# Altium integrated library Lattice CPLD ispMACH.IntLib: 663 symbols (part 48 of 48)
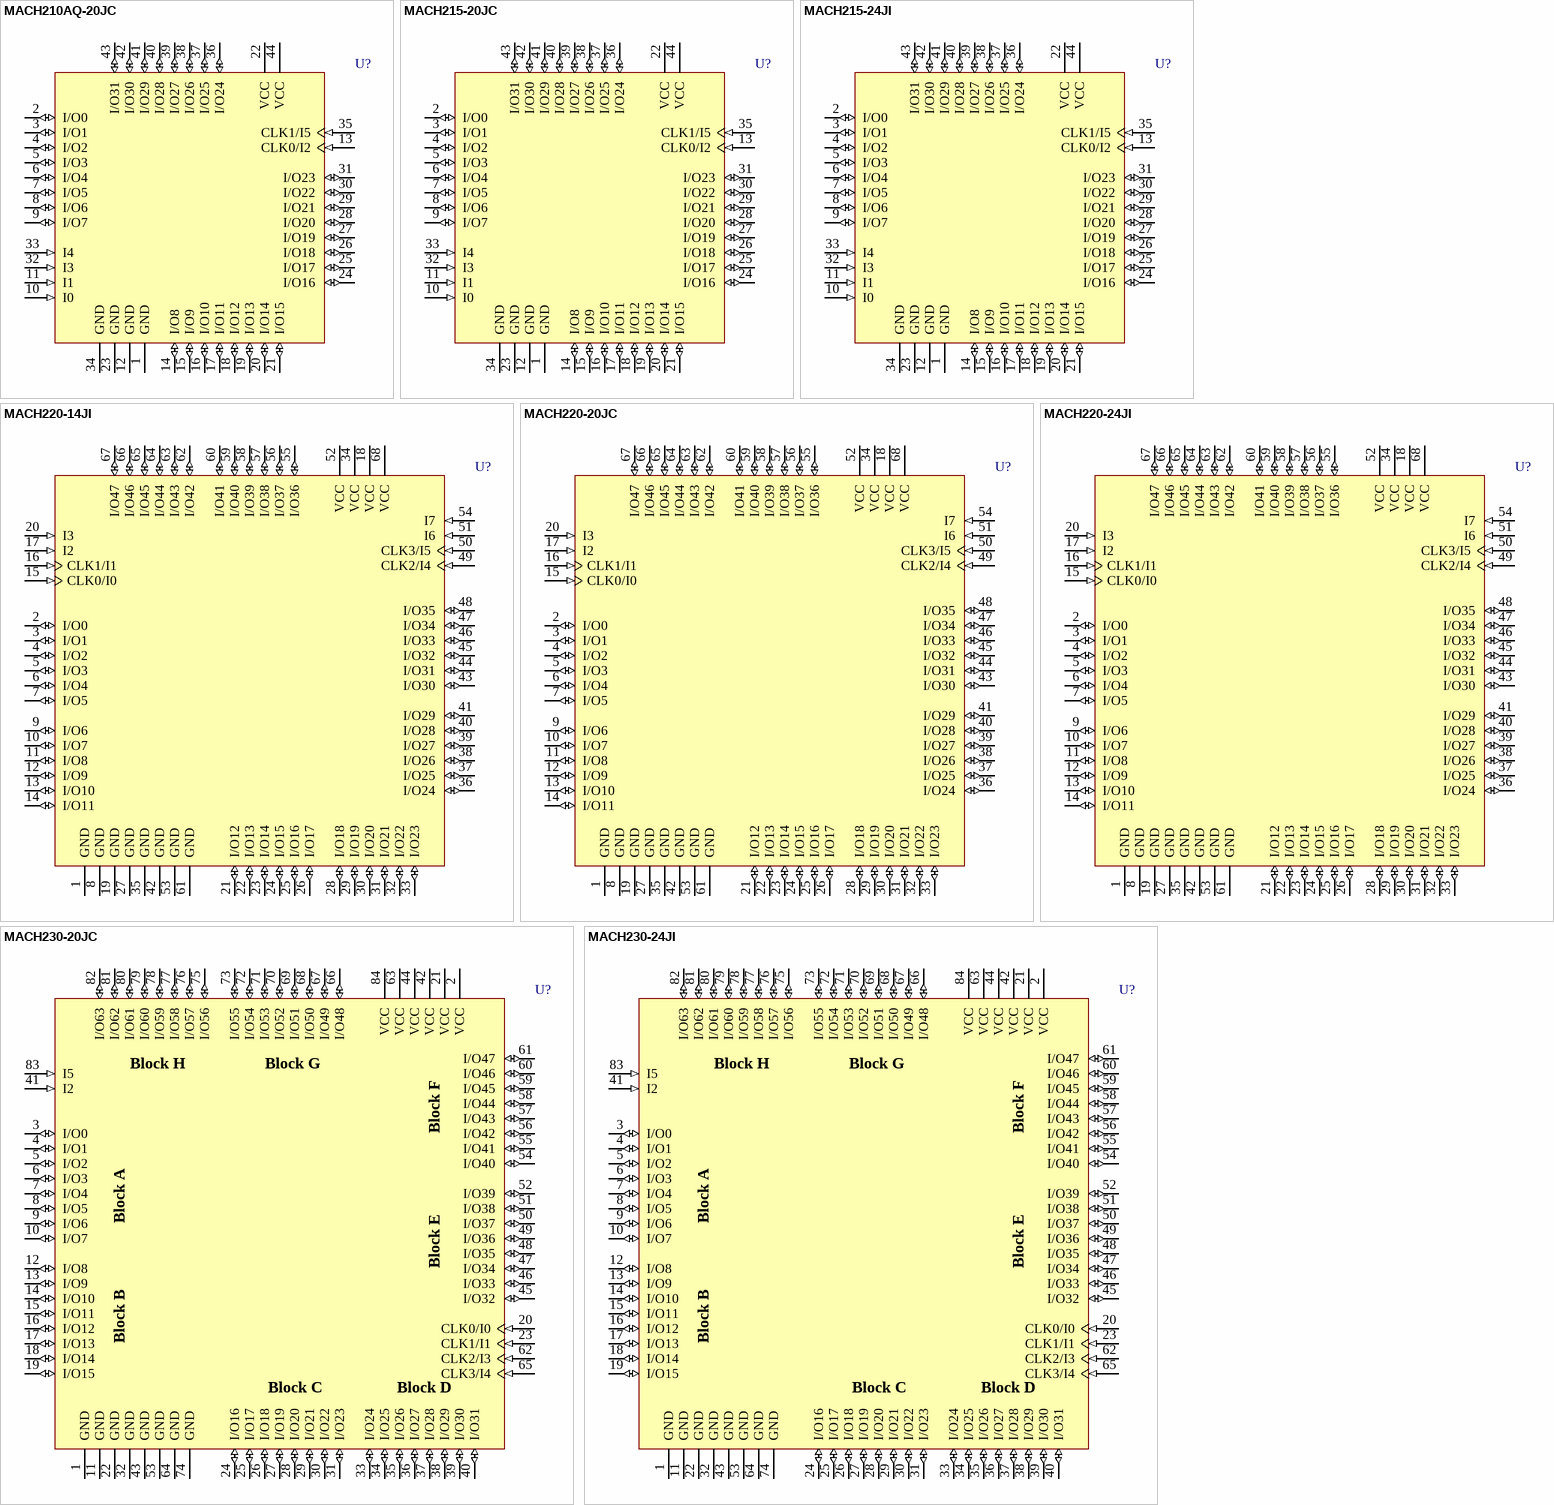
[diagram p353: symbols MACH210AQ-20JC to MACH230-24JI]

## MACH220-20JC
designator U?
High-Density EE CMOS Programmable Logic; Published: 23-Sep-2002; LatestRevisionDate: 13-Apr-2006; LatestRevisionNote: IPC-7351 Footprint Added.; DatasheetVersion: May-1995; PackageVersion: pkg_32, Aug-2005; PackageReference: PLCC68; Publisher: Altium Limited; PackageDescription: 68-Pin Leaded Chip Carrier 1.27 mm Pitch; Code_IPC: PLCC-68; ComponentLink1Description: Manufacturer Link; ComponentLink1URL: http://www.latticesemi.com/products/mature/index.cfm; ComponentLink2Description: Datasheet; ComponentLink2URL: http://www.latticesemi.com/lit/docs/datasheets/cpld/14130.pdf
footprint PLCC68_N (Leaded Chip Carrier, 68-Leads, Body 24x24mm, Pitch 1.27mm, IPC Medium Density)
footprint PLCC68_L (Leaded Chip Carrier, 68-Leads, Body 24x24mm, Pitch 1.27mm, IPC High Density)
footprint PLCC68_M (Leaded Chip Carrier, 68-Leads, Body 24x24mm, Pitch 1.27mm, IPC Low Density)
3D model MACH220-PLCC68 (68-Pin Leaded Chip Carrier 1.27 mm Pitch)
pins: 1 GND (power), 2 I/O0 (io), 3 I/O1 (io), 4 I/O2 (io), 5 I/O3 (io), 6 I/O4 (io), 7 I/O5 (io), 8 GND (power), 9 I/O6 (io), 10 I/O7 (io), 11 I/O8 (io), 12 I/O9 (io), 13 I/O10 (io), 14 I/O11 (io), 15 CLK0/I0 (in), 16 CLK1/I1 (in), 17 I2 (in), 18 VCC (power), 19 GND (power), 20 I3 (in), 21 I/O12 (io), 22 I/O13 (io), 23 I/O14 (io), 24 I/O15 (io), 25 I/O16 (io), 26 I/O17 (io), 27 GND (power), 28 I/O18 (io), 29 I/O19 (io), 30 I/O20 (io), 31 I/O21 (io), 32 I/O22 (io), 33 I/O23 (io), 34 VCC (power), 35 GND (power), 36 I/O24 (io), 37 I/O25 (io), 38 I/O26 (io), 39 I/O27 (io), 40 I/O28 (io), 41 I/O29 (io), 42 GND (power), 43 I/O30 (io), 44 I/O31 (io), 45 I/O32 (io), 46 I/O33 (io), 47 I/O34 (io), 48 I/O35 (io), 49 CLK2/I4 (in), 50 CLK3/I5 (in), 51 I6 (in), 52 VCC (power), 53 GND (power), 54 I7 (in), 55 I/O36 (io), 56 I/O37 (io), 57 I/O38 (io), 58 I/O39 (io), 59 I/O40 (io), 60 I/O41 (io), 61 GND (power), 62 I/O42 (io), 63 I/O43 (io), 64 I/O44 (io), 65 I/O45 (io), 66 I/O46 (io), 67 I/O47 (io), 68 VCC (power)

## MACH220-24JI
designator U?
High-Density EE CMOS Programmable Logic; Published: 23-Sep-2002; LatestRevisionDate: 13-Apr-2006; LatestRevisionNote: IPC-7351 Footprint Added.; DatasheetVersion: May-1995; PackageVersion: pkg_32, Aug-2005; PackageReference: PLCC68; Publisher: Altium Limited; PackageDescription: 68-Pin Leaded Chip Carrier 1.27 mm Pitch; Code_IPC: PLCC-68; ComponentLink1Description: Manufacturer Link; ComponentLink1URL: http://www.latticesemi.com/products/mature/index.cfm; ComponentLink2Description: Datasheet; ComponentLink2URL: http://www.latticesemi.com/lit/docs/datasheets/cpld/14130.pdf
footprint PLCC68_N (Leaded Chip Carrier, 68-Leads, Body 24x24mm, Pitch 1.27mm, IPC Medium Density)
footprint PLCC68_L (Leaded Chip Carrier, 68-Leads, Body 24x24mm, Pitch 1.27mm, IPC High Density)
footprint PLCC68_M (Leaded Chip Carrier, 68-Leads, Body 24x24mm, Pitch 1.27mm, IPC Low Density)
3D model MACH220-PLCC68 (68-Pin Leaded Chip Carrier 1.27 mm Pitch)
pins: 1 GND (power), 2 I/O0 (io), 3 I/O1 (io), 4 I/O2 (io), 5 I/O3 (io), 6 I/O4 (io), 7 I/O5 (io), 8 GND (power), 9 I/O6 (io), 10 I/O7 (io), 11 I/O8 (io), 12 I/O9 (io), 13 I/O10 (io), 14 I/O11 (io), 15 CLK0/I0 (in), 16 CLK1/I1 (in), 17 I2 (in), 18 VCC (power), 19 GND (power), 20 I3 (in), 21 I/O12 (io), 22 I/O13 (io), 23 I/O14 (io), 24 I/O15 (io), 25 I/O16 (io), 26 I/O17 (io), 27 GND (power), 28 I/O18 (io), 29 I/O19 (io), 30 I/O20 (io), 31 I/O21 (io), 32 I/O22 (io), 33 I/O23 (io), 34 VCC (power), 35 GND (power), 36 I/O24 (io), 37 I/O25 (io), 38 I/O26 (io), 39 I/O27 (io), 40 I/O28 (io), 41 I/O29 (io), 42 GND (power), 43 I/O30 (io), 44 I/O31 (io), 45 I/O32 (io), 46 I/O33 (io), 47 I/O34 (io), 48 I/O35 (io), 49 CLK2/I4 (in), 50 CLK3/I5 (in), 51 I6 (in), 52 VCC (power), 53 GND (power), 54 I7 (in), 55 I/O36 (io), 56 I/O37 (io), 57 I/O38 (io), 58 I/O39 (io), 59 I/O40 (io), 60 I/O41 (io), 61 GND (power), 62 I/O42 (io), 63 I/O43 (io), 64 I/O44 (io), 65 I/O45 (io), 66 I/O46 (io), 67 I/O47 (io), 68 VCC (power)

## MACH230-20JC
designator U?
High-Density EE CMOS Programmable Logic; Published: 23-Sep-2002; LatestRevisionDate: 13-Apr-2006; LatestRevisionNote: IPC-7351 Footprint Added.; DatasheetVersion: May-1995; PackageVersion: pkg_32, Aug-2005; PackageReference: PLCC84; Publisher: Altium Limited; PackageDescription: 84-Pin Leaded Chip Carrier 1.27 mm Pitch; Code_IPC: PLCC-84; ComponentLink1Description: Manufacturer Link; ComponentLink1URL: http://www.latticesemi.com/products/mature/index.cfm; ComponentLink2Description: Datasheet; ComponentLink2URL: http://www.latticesemi.com/lit/docs/datasheets/cpld/14132.pdf
footprint PLCC84_N (Leaded Chip Carrier, 84-Leads, Body 29.3x29.3mm, Pitch 1.27mm, IPC Medium Density)
footprint PLCC84_L (Leaded Chip Carrier, 84-Leads, Body 29.3x29.3mm, Pitch 1.27mm, IPC High Density)
footprint PLCC84_M (Leaded Chip Carrier, 84-Leads, Body 29.3x29.3mm, Pitch 1.27mm, IPC Low Density)
3D model MACH230-PLCC84 (84-Pin Leaded Chip Carrier 1.27 mm Pitch)
pins: 1 GND (power), 2 VCC (power), 3 I/O0 (io), 4 I/O1 (io), 5 I/O2 (io), 6 I/O3 (io), 7 I/O4 (io), 8 I/O5 (io), 9 I/O6 (io), 10 I/O7 (io), 11 GND (power), 12 I/O8 (io), 13 I/O9 (io), 14 I/O10 (io), 15 I/O11 (io), 16 I/O12 (io), 17 I/O13 (io), 18 I/O14 (io), 19 I/O15 (io), 20 CLK0/I0 (in), 21 VCC (power), 22 GND (power), 23 CLK1/I1 (in), 24 I/O16 (io), 25 I/O17 (io), 26 I/O18 (io), 27 I/O19 (io), 28 I/O20 (io), 29 I/O21 (io), 30 I/O22 (io), 31 I/O23 (io), 32 GND (power), 33 I/O24 (io), 34 I/O25 (io), 35 I/O26 (io), 36 I/O27 (io), 37 I/O28 (io), 38 I/O29 (io), 39 I/O30 (io), 40 I/O31 (io), 41 I2 (in), 42 VCC (power), 43 GND (power), 44 VCC (power), 45 I/O32 (io), 46 I/O33 (io), 47 I/O34 (io), 48 I/O35 (io), 49 I/O36 (io), 50 I/O37 (io), 51 I/O38 (io), 52 I/O39 (io), 53 GND (power), 54 I/O40 (io), 55 I/O41 (io), 56 I/O42 (io), 57 I/O43 (io), 58 I/O44 (io), 59 I/O45 (io), 60 I/O46 (io), 61 I/O47 (io), 62 CLK2/I3 (in), 63 VCC (power), 64 GND (power), 65 CLK3/I4 (in), 66 I/O48 (io), 67 I/O49 (io), 68 I/O50 (io), 69 I/O51 (io), 70 I/O52 (io), 71 I/O53 (io), 72 I/O54 (io), 73 I/O55 (io), 74 GND (power), 75 I/O56 (io), 76 I/O57 (io), 77 I/O58 (io), 78 I/O59 (io), 79 I/O60 (io), 80 I/O61 (io), 81 I/O62 (io), 82 I/O63 (io), 83 I5 (in), 84 VCC (power)
text: Block H; Block G; Block F; Block A; Block E; Block B; Block C; Block D

## MACH230-24JI
designator U?
High-Density EE CMOS Programmable Logic; Published: 23-Sep-2002; LatestRevisionDate: 13-Apr-2006; LatestRevisionNote: IPC-7351 Footprint Added.; DatasheetVersion: May-1995; PackageVersion: pkg_32, Aug-2005; PackageReference: PLCC84; Publisher: Altium Limited; PackageDescription: 84-Pin Leaded Chip Carrier 1.27 mm Pitch; Code_IPC: PLCC-84; ComponentLink1Description: Manufacturer Link; ComponentLink1URL: http://www.latticesemi.com/products/mature/index.cfm; ComponentLink2Description: Datasheet; ComponentLink2URL: http://www.latticesemi.com/lit/docs/datasheets/cpld/14132.pdf
footprint PLCC84_N (Leaded Chip Carrier, 84-Leads, Body 29.3x29.3mm, Pitch 1.27mm, IPC Medium Density)
footprint PLCC84_L (Leaded Chip Carrier, 84-Leads, Body 29.3x29.3mm, Pitch 1.27mm, IPC High Density)
footprint PLCC84_M (Leaded Chip Carrier, 84-Leads, Body 29.3x29.3mm, Pitch 1.27mm, IPC Low Density)
3D model MACH230-PLCC84 (84-Pin Leaded Chip Carrier 1.27 mm Pitch)
pins: 1 GND (power), 2 VCC (power), 3 I/O0 (io), 4 I/O1 (io), 5 I/O2 (io), 6 I/O3 (io), 7 I/O4 (io), 8 I/O5 (io), 9 I/O6 (io), 10 I/O7 (io), 11 GND (power), 12 I/O8 (io), 13 I/O9 (io), 14 I/O10 (io), 15 I/O11 (io), 16 I/O12 (io), 17 I/O13 (io), 18 I/O14 (io), 19 I/O15 (io), 20 CLK0/I0 (in), 21 VCC (power), 22 GND (power), 23 CLK1/I1 (in), 24 I/O16 (io), 25 I/O17 (io), 26 I/O18 (io), 27 I/O19 (io), 28 I/O20 (io), 29 I/O21 (io), 30 I/O22 (io), 31 I/O23 (io), 32 GND (power), 33 I/O24 (io), 34 I/O25 (io), 35 I/O26 (io), 36 I/O27 (io), 37 I/O28 (io), 38 I/O29 (io), 39 I/O30 (io), 40 I/O31 (io), 41 I2 (in), 42 VCC (power), 43 GND (power), 44 VCC (power), 45 I/O32 (io), 46 I/O33 (io), 47 I/O34 (io), 48 I/O35 (io), 49 I/O36 (io), 50 I/O37 (io), 51 I/O38 (io), 52 I/O39 (io), 53 GND (power), 54 I/O40 (io), 55 I/O41 (io), 56 I/O42 (io), 57 I/O43 (io), 58 I/O44 (io), 59 I/O45 (io), 60 I/O46 (io), 61 I/O47 (io), 62 CLK2/I3 (in), 63 VCC (power), 64 GND (power), 65 CLK3/I4 (in), 66 I/O48 (io), 67 I/O49 (io), 68 I/O50 (io), 69 I/O51 (io), 70 I/O52 (io), 71 I/O53 (io), 72 I/O54 (io), 73 I/O55 (io), 74 GND (power), 75 I/O56 (io), 76 I/O57 (io), 77 I/O58 (io), 78 I/O59 (io), 79 I/O60 (io), 80 I/O61 (io), 81 I/O62 (io), 82 I/O63 (io), 83 I5 (in), 84 VCC (power)
text: Block H; Block G; Block F; Block A; Block E; Block B; Block C; Block D

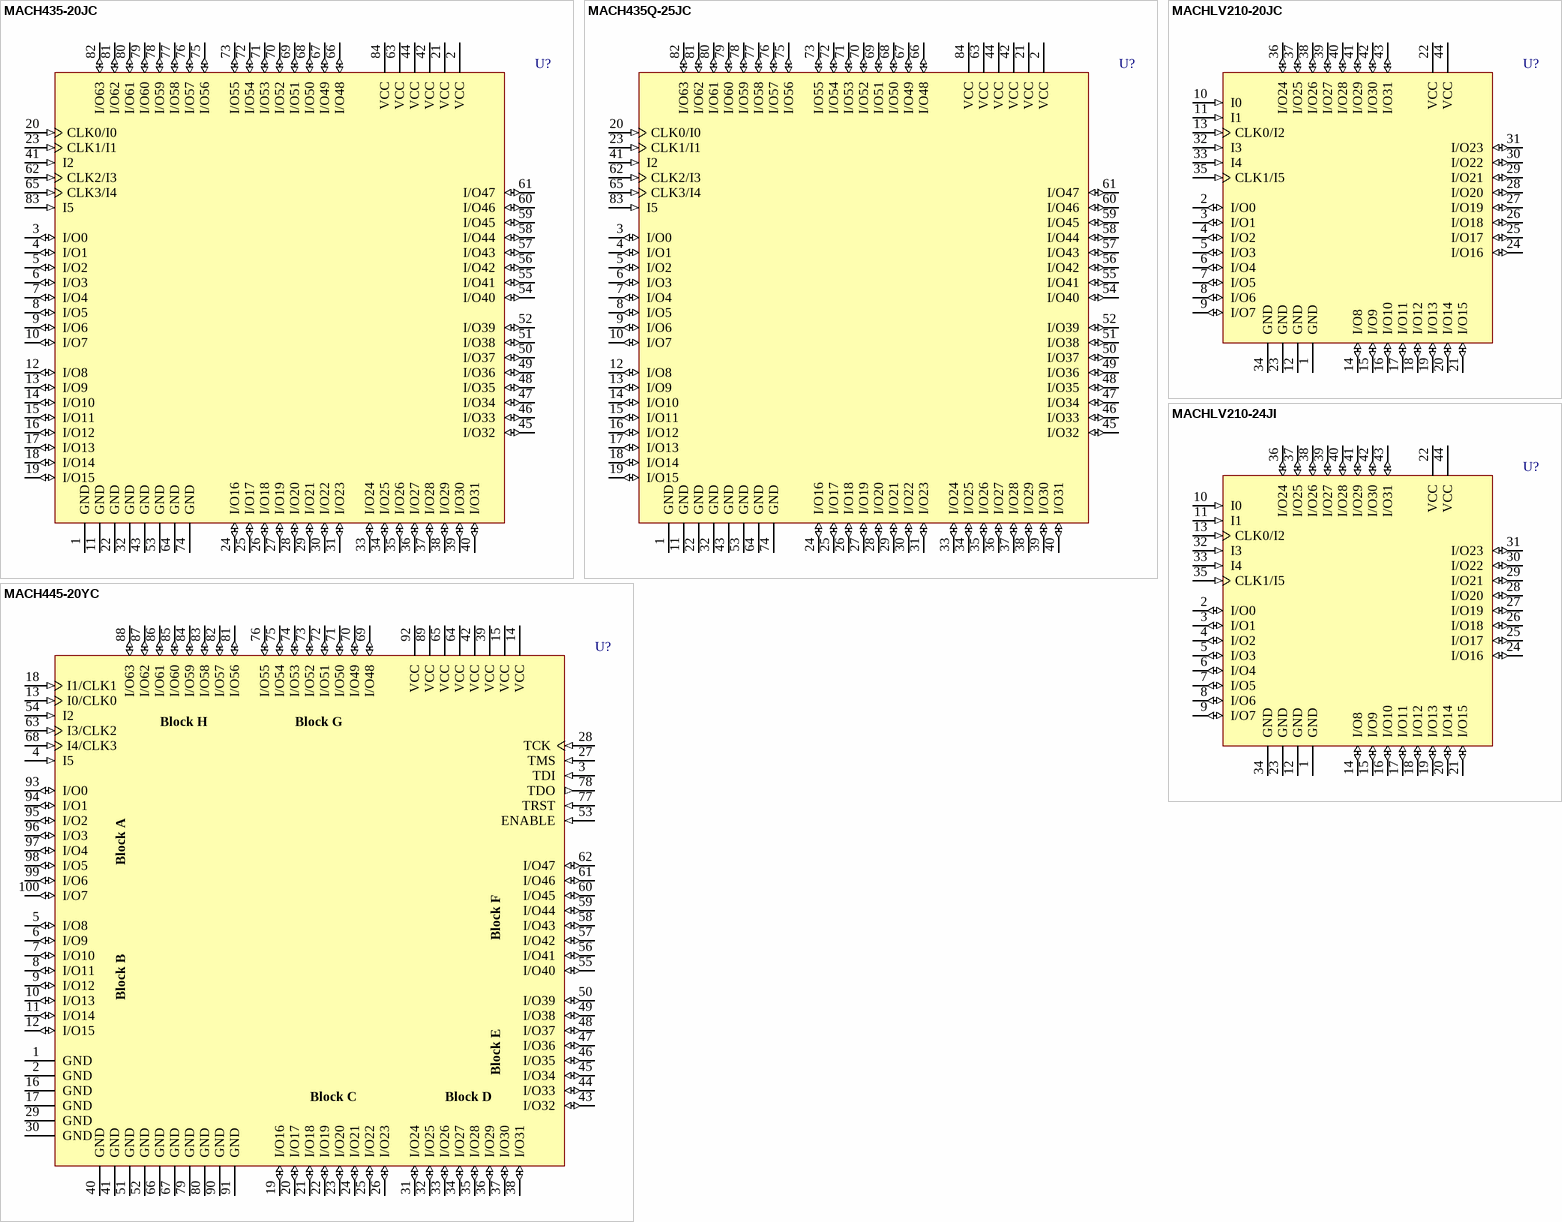
[diagram p306: symbols MACH435-20JC to MACHLV210-24JI]

## MACH435-20JC
designator U?
High-Density EE CMOS Programmable Logic; Published: 23-Sep-2002; LatestRevisionDate: 13-Apr-2006; LatestRevisionNote: IPC-7351 Footprint Added.; DatasheetVersion: May-1995; PackageVersion: pkg_32, Aug-2005; PackageReference: PLCC84; Publisher: Altium Limited; PackageDescription: 84-Pin Leaded Chip Carrier 1.27 mm Pitch; Code_IPC: PLCC-84; ComponentLink1Description: Manufacturer Link; ComponentLink1URL: http://www.latticesemi.com/products/mature/index.cfm; ComponentLink2Description: Datasheet; ComponentLink2URL: http://www.latticesemi.com/lit/docs/datasheets/cpld/17469.pdf
footprint PLCC84_N (Leaded Chip Carrier, 84-Leads, Body 29.3x29.3mm, Pitch 1.27mm, IPC Medium Density)
footprint PLCC84_L (Leaded Chip Carrier, 84-Leads, Body 29.3x29.3mm, Pitch 1.27mm, IPC High Density)
footprint PLCC84_M (Leaded Chip Carrier, 84-Leads, Body 29.3x29.3mm, Pitch 1.27mm, IPC Low Density)
3D model MACH435Q-PLCC84 (84-Pin Leaded Chip Carrier 1.27 mm Pitch)
pins: 1 GND (power), 2 VCC (power), 3 I/O0 (io), 4 I/O1 (io), 5 I/O2 (io), 6 I/O3 (io), 7 I/O4 (io), 8 I/O5 (io), 9 I/O6 (io), 10 I/O7 (io), 11 GND (power), 12 I/O8 (io), 13 I/O9 (io), 14 I/O10 (io), 15 I/O11 (io), 16 I/O12 (io), 17 I/O13 (io), 18 I/O14 (io), 19 I/O15 (io), 20 CLK0/I0 (in), 21 VCC (power), 22 GND (power), 23 CLK1/I1 (in), 24 I/O16 (io), 25 I/O17 (io), 26 I/O18 (io), 27 I/O19 (io), 28 I/O20 (io), 29 I/O21 (io), 30 I/O22 (io), 31 I/O23 (io), 32 GND (power), 33 I/O24 (io), 34 I/O25 (io), 35 I/O26 (io), 36 I/O27 (io), 37 I/O28 (io), 38 I/O29 (io), 39 I/O30 (io), 40 I/O31 (io), 41 I2 (in), 42 VCC (power), 43 GND (power), 44 VCC (power), 45 I/O32 (io), 46 I/O33 (io), 47 I/O34 (io), 48 I/O35 (io), 49 I/O36 (io), 50 I/O37 (io), 51 I/O38 (io), 52 I/O39 (io), 53 GND (power), 54 I/O40 (io), 55 I/O41 (io), 56 I/O42 (io), 57 I/O43 (io), 58 I/O44 (io), 59 I/O45 (io), 60 I/O46 (io), 61 I/O47 (io), 62 CLK2/I3 (in), 63 VCC (power), 64 GND (power), 65 CLK3/I4 (in), 66 I/O48 (io), 67 I/O49 (io), 68 I/O50 (io), 69 I/O51 (io), 70 I/O52 (io), 71 I/O53 (io), 72 I/O54 (io), 73 I/O55 (io), 74 GND (power), 75 I/O56 (io), 76 I/O57 (io), 77 I/O58 (io), 78 I/O59 (io), 79 I/O60 (io), 80 I/O61 (io), 81 I/O62 (io), 82 I/O63 (io), 83 I5 (in), 84 VCC (power)

## MACH435Q-25JC
designator U?
High-Density EE CMOS Programmable Logic; Published: 23-Sep-2002; LatestRevisionDate: 13-Apr-2006; LatestRevisionNote: IPC-7351 Footprint Added.; DatasheetVersion: May-1995; PackageVersion: pkg_32, Aug-2005; PackageReference: PLCC84; Publisher: Altium Limited; PackageDescription: 84-Pin Leaded Chip Carrier 1.27 mm Pitch; Code_IPC: PLCC-84; ComponentLink1Description: Manufacturer Link; ComponentLink1URL: http://www.latticesemi.com/products/mature/index.cfm; ComponentLink2Description: Datasheet; ComponentLink2URL: http://www.latticesemi.com/lit/docs/datasheets/cpld/17469.pdf
footprint PLCC84_N (Leaded Chip Carrier, 84-Leads, Body 29.3x29.3mm, Pitch 1.27mm, IPC Medium Density)
footprint PLCC84_L (Leaded Chip Carrier, 84-Leads, Body 29.3x29.3mm, Pitch 1.27mm, IPC High Density)
footprint PLCC84_M (Leaded Chip Carrier, 84-Leads, Body 29.3x29.3mm, Pitch 1.27mm, IPC Low Density)
3D model MACH435Q-PLCC84 (84-Pin Leaded Chip Carrier 1.27 mm Pitch)
pins: 1 GND (power), 2 VCC (power), 3 I/O0 (io), 4 I/O1 (io), 5 I/O2 (io), 6 I/O3 (io), 7 I/O4 (io), 8 I/O5 (io), 9 I/O6 (io), 10 I/O7 (io), 11 GND (power), 12 I/O8 (io), 13 I/O9 (io), 14 I/O10 (io), 15 I/O11 (io), 16 I/O12 (io), 17 I/O13 (io), 18 I/O14 (io), 19 I/O15 (io), 20 CLK0/I0 (in), 21 VCC (power), 22 GND (power), 23 CLK1/I1 (in), 24 I/O16 (io), 25 I/O17 (io), 26 I/O18 (io), 27 I/O19 (io), 28 I/O20 (io), 29 I/O21 (io), 30 I/O22 (io), 31 I/O23 (io), 32 GND (power), 33 I/O24 (io), 34 I/O25 (io), 35 I/O26 (io), 36 I/O27 (io), 37 I/O28 (io), 38 I/O29 (io), 39 I/O30 (io), 40 I/O31 (io), 41 I2 (in), 42 VCC (power), 43 GND (power), 44 VCC (power), 45 I/O32 (io), 46 I/O33 (io), 47 I/O34 (io), 48 I/O35 (io), 49 I/O36 (io), 50 I/O37 (io), 51 I/O38 (io), 52 I/O39 (io), 53 GND (power), 54 I/O40 (io), 55 I/O41 (io), 56 I/O42 (io), 57 I/O43 (io), 58 I/O44 (io), 59 I/O45 (io), 60 I/O46 (io), 61 I/O47 (io), 62 CLK2/I3 (in), 63 VCC (power), 64 GND (power), 65 CLK3/I4 (in), 66 I/O48 (io), 67 I/O49 (io), 68 I/O50 (io), 69 I/O51 (io), 70 I/O52 (io), 71 I/O53 (io), 72 I/O54 (io), 73 I/O55 (io), 74 GND (power), 75 I/O56 (io), 76 I/O57 (io), 77 I/O58 (io), 78 I/O59 (io), 79 I/O60 (io), 80 I/O61 (io), 81 I/O62 (io), 82 I/O63 (io), 83 I5 (in), 84 VCC (power)

## MACH445-20YC
designator U?
High-Density EE CMOS Programmable Logic; Published: 23-Sep-2002; LatestRevisionDate: 13-Apr-2006; LatestRevisionNote: IPC-7351 Footprint Added.; DatasheetVersion: May-1995; PackageVersion: pkg_32, Aug-2005; PackageReference: PQFP100; Publisher: Altium Limited; PackageDescription: 100-Pin Quad Flat Pack Rectangular 0.65 mm Pitch; Code_IPC: QFP65P1720X2320-100; ComponentLink1Description: Manufacturer Link; ComponentLink1URL: http://www.latticesemi.com/products/mature/index.cfm; ComponentLink2Description: Datasheet; ComponentLink2URL: http://www.latticesemi.com/lit/docs/datasheets/cpld/17468.pdf
footprint PQFP100_N (QFP, 100-Leads, Body 20x14mm, Pitch 0.65mm, IPC Medium Density)
footprint PQFP100_L (QFP, 100-Leads, Body 20x14mm, Pitch 0.65mm, IPC High Density)
footprint PQFP100_M (QFP, 100-Leads, Body 20x14mm, Pitch 0.65mm, IPC Low Density)
3D model PQFP-100 (100-Pin Quad Flat Pack Rectangular 0.65 mm Pitch)
pins: 1 GND (power), 2 GND (power), 3 TDI (in), 4 I5 (in), 5 I/O8 (io), 6 I/O9 (io), 7 I/O10 (io), 8 I/O11 (io), 9 I/O12 (io), 10 I/O13 (io), 11 I/O14 (io), 12 I/O15 (io), 13 I0/CLK0 (in), 14 VCC (power), 15 VCC (power), 16 GND (power), 17 GND (power), 18 I1/CLK1 (in), 19 I/O16 (io), 20 I/O17 (io), 21 I/O18 (io), 22 I/O19 (io), 23 I/O20 (io), 24 I/O21 (io), 25 I/O22 (io), 26 I/O23 (io), 27 TMS (in), 28 TCK (in), 29 GND (power), 30 GND (power), 31 I/O24 (io), 32 I/O25 (io), 33 I/O26 (io), 34 I/O27 (io), 35 I/O28 (io), 36 I/O29 (io), 37 I/O30 (io), 38 I/O31 (io), 39 VCC (power), 40 GND (power), 41 GND (power), 42 VCC (power), 43 I/O32 (io), 44 I/O33 (io), 45 I/O34 (io), 46 I/O35 (io), 47 I/O36 (io), 48 I/O37 (io), 49 I/O38 (io), 50 I/O39 (io), 51 GND (power), 52 GND (power), 53 ENABLE (in), 54 I2 (in), 55 I/O40 (io), 56 I/O41 (io), 57 I/O42 (io), 58 I/O43 (io), 59 I/O44 (io), 60 I/O45 (io), 61 I/O46 (io), 62 I/O47 (io), 63 I3/CLK2 (in), 64 VCC (power), 65 VCC (power), 66 GND (power), 67 GND (power), 68 I4/CLK3 (in), 69 I/O48 (io), 70 I/O49 (io), 71 I/O50 (io), 72 I/O51 (io), 73 I/O52 (io), 74 I/O53 (io), 75 I/O54 (io), 76 I/O55 (io), 77 TRST (in), 78 TDO (out), 79 GND (power), 80 GND (power), 81 I/O56 (io), 82 I/O57 (io), 83 I/O58 (io), 84 I/O59 (io), 85 I/O60 (io), 86 I/O61 (io), 87 I/O62 (io), 88 I/O63 (io), 89 VCC (power), 90 GND (power), 91 GND (power), 92 VCC (power), 93 I/O0 (io), 94 I/O1 (io), 95 I/O2 (io), 96 I/O3 (io), 97 I/O4 (io), 98 I/O5 (io), 99 I/O6 (io), 100 I/O7 (io)
text: Block H; Block G; Block A; Block F; Block B; Block E; Block C; Block D

## MACHLV210-20JC
designator U?
High-Density EE CMOS Programmable Logic; Published: 23-Sep-2002; LatestRevisionDate: 13-Apr-2006; LatestRevisionNote: IPC-7351 Footprint Added.; DatasheetVersion: May-1995; PackageVersion: pkg_32, Aug-2005; PackageReference: PLCC44; Publisher: Altium Limited; PackageDescription: 44-Pin Leaded Chip Carrier 1.27 mm Pitch; Code_IPC: PLCC-44; ComponentLink1Description: Manufacturer Link; ComponentLink1URL: http://www.latticesemi.com/products/mature/index.cfm; ComponentLink2Description: Datasheet; ComponentLink2URL: http://www.latticesemi.com/lit/docs/datasheets/cpld/17908.pdf
footprint PLCC44_N (Leaded Chip Carrier, 44-Leads, Body 16.6x16.6mm, Pitch 1.27mm, IPC Medium Density)
footprint PLCC44_L (Leaded Chip Carrier, 44-Leads, Body 16.6x16.6mm, Pitch 1.27mm, IPC High Density)
footprint PLCC44_M (Leaded Chip Carrier, 44-Leads, Body 16.6x16.6mm, Pitch 1.27mm, IPC Low Density)
3D model MACHLV210-PLCC44 (44-Pin Leaded Chip Carrier 1.27 mm Pitch)
pins: 1 GND (power), 2 I/O0 (io), 3 I/O1 (io), 4 I/O2 (io), 5 I/O3 (io), 6 I/O4 (io), 7 I/O5 (io), 8 I/O6 (io), 9 I/O7 (io), 10 I0 (in), 11 I1 (in), 12 GND (power), 13 CLK0/I2 (in), 14 I/O8 (io), 15 I/O9 (io), 16 I/O10 (io), 17 I/O11 (io), 18 I/O12 (io), 19 I/O13 (io), 20 I/O14 (io), 21 I/O15 (io), 22 VCC (power), 23 GND (power), 24 I/O16 (io), 25 I/O17 (io), 26 I/O18 (io), 27 I/O19 (io), 28 I/O20 (io), 29 I/O21 (io), 30 I/O22 (io), 31 I/O23 (io), 32 I3 (in), 33 I4 (in), 34 GND (power), 35 CLK1/I5 (in), 36 I/O24 (io), 37 I/O25 (io), 38 I/O26 (io), 39 I/O27 (io), 40 I/O28 (io), 41 I/O29 (io), 42 I/O30 (io), 43 I/O31 (io), 44 VCC (power)

## MACHLV210-24JI
designator U?
High-Density EE CMOS Programmable Logic; Published: 23-Sep-2002; LatestRevisionDate: 13-Apr-2006; LatestRevisionNote: IPC-7351 Footprint Added.; DatasheetVersion: May-1995; PackageVersion: pkg_32, Aug-2005; PackageReference: PLCC44; Publisher: Altium Limited; PackageDescription: 44-Pin Leaded Chip Carrier 1.27 mm Pitch; Code_IPC: PLCC-44; ComponentLink1Description: Manufacturer Link; ComponentLink1URL: http://www.latticesemi.com/products/mature/index.cfm; ComponentLink2Description: Datasheet; ComponentLink2URL: http://www.latticesemi.com/lit/docs/datasheets/cpld/17908.pdf
footprint PLCC44_N (Leaded Chip Carrier, 44-Leads, Body 16.6x16.6mm, Pitch 1.27mm, IPC Medium Density)
footprint PLCC44_L (Leaded Chip Carrier, 44-Leads, Body 16.6x16.6mm, Pitch 1.27mm, IPC High Density)
footprint PLCC44_M (Leaded Chip Carrier, 44-Leads, Body 16.6x16.6mm, Pitch 1.27mm, IPC Low Density)
3D model MACHLV210-PLCC44 (44-Pin Leaded Chip Carrier 1.27 mm Pitch)
pins: 1 GND (power), 2 I/O0 (io), 3 I/O1 (io), 4 I/O2 (io), 5 I/O3 (io), 6 I/O4 (io), 7 I/O5 (io), 8 I/O6 (io), 9 I/O7 (io), 10 I0 (in), 11 I1 (in), 12 GND (power), 13 CLK0/I2 (in), 14 I/O8 (io), 15 I/O9 (io), 16 I/O10 (io), 17 I/O11 (io), 18 I/O12 (io), 19 I/O13 (io), 20 I/O14 (io), 21 I/O15 (io), 22 VCC (power), 23 GND (power), 24 I/O16 (io), 25 I/O17 (io), 26 I/O18 (io), 27 I/O19 (io), 28 I/O20 (io), 29 I/O21 (io), 30 I/O22 (io), 31 I/O23 (io), 32 I3 (in), 33 I4 (in), 34 GND (power), 35 CLK1/I5 (in), 36 I/O24 (io), 37 I/O25 (io), 38 I/O26 (io), 39 I/O27 (io), 40 I/O28 (io), 41 I/O29 (io), 42 I/O30 (io), 43 I/O31 (io), 44 VCC (power)